# Altium schematic symbol library Conn_other.SchLib: 1 symbol
Pins are listed as number, name and electrical type; pins without a type are passive.

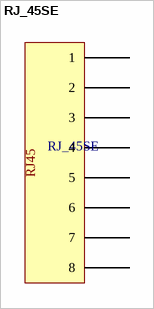
[diagram p0: symbol RJ_45SE]

## RJ_45SE
designator RJ_45SE  (value not drawn)
footprint RJ_45SE
pins: 1, 2, 3, 4, 5, 6, 7, 8
text: RJ45